# Altium footprint library SWitchs_Manufacturers.PcbLib: 5 footprints
Each footprint in its own frame and in the unit in brackets; x right, y up, seen from the top. Pads: shape width x height; smd on the part's side, far side on the other; paste and mask are expansions set on the pad; w line width, h text height; cw(c..) or ccw(c..) is an arc to the next point about the centre after c.
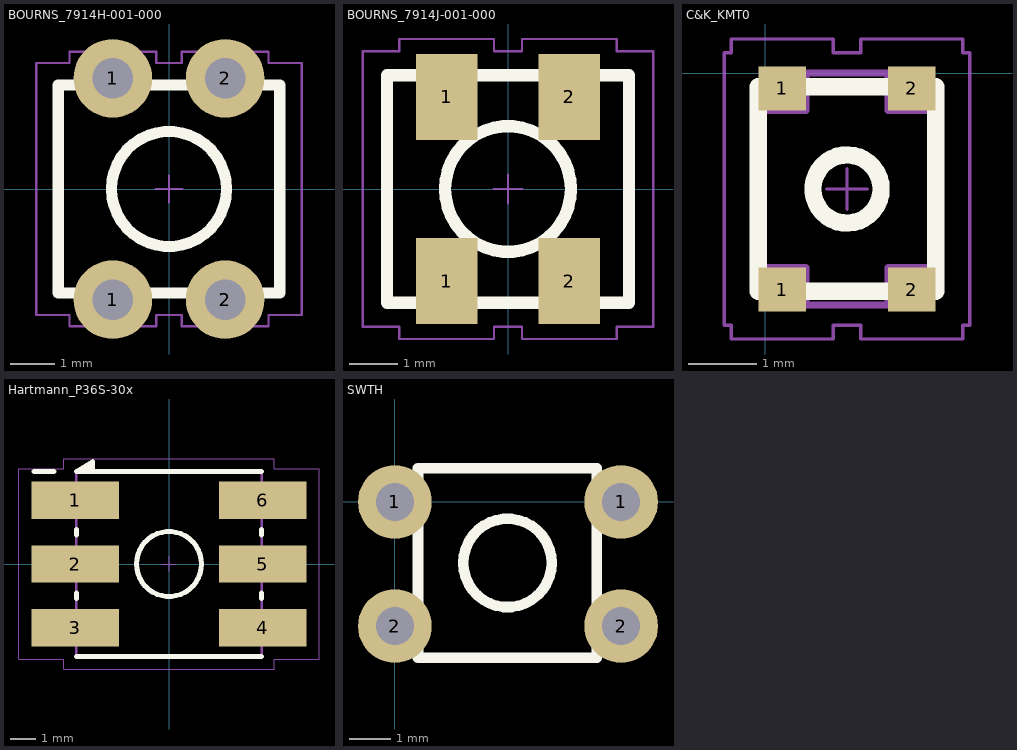
[diagram p0: the footprints below, top view; thin cyan lines are the x and y axes]

## BOURNS_7914H-001-000 [mil] "7914 4 mm TH Sealed Key Switch"
height 165.35
pads (4):
  round 70 hole 36: 1(-50,-98.43) 1(-50,98.43) 2(50,-98.43) 2(50,98.43)
Top Overlay:
  circle w10: c0,0 r51.18
  lines w10: -98.43,-92.52 98.43,-92.52 98.43,92.52 -98.43,92.52 -98.43,-92.52
TopBody:
  circle w3.94: c0,0 r51.18
  lines w3.94: -68.9,-92.52 -68.9,-102.36 -31.1,-102.36 -31.1,-92.52 ; -68.9,92.52 -68.9,102.36 -31.1,102.36 -31.1,92.52 ; 31.1,-92.52 31.1,-102.36 68.9,-102.36 68.9,-92.52 ; 31.1,92.52 31.1,102.36 68.9,102.36 68.9,92.52 ; -98.43,-92.52 -98.43,92.52 98.43,92.52 98.43,-92.52 -98.43,-92.52
  text ".Designator" at -32.48,-6.89 h19.68
TopCourtyard:
  lines w1.97: -11.81,0 11.81,0 ; 0,-11.81 0,11.81 ; -118.11,-112.2 -88.58,-112.2 -88.58,-122.05 -11.42,-122.05 -11.42,-112.2 11.42,-112.2 11.42,-122.05 88.58,-122.05 88.58,-112.2 118.11,-112.2 118.11,112.2 88.58,112.2 88.58,122.05 11.42,122.05 11.42,112.2 -11.42,112.2 -11.42,122.05 -88.58,122.05 -88.58,112.2 -118.11,112.2 -118.11,-112.2
3D body: height 165.35, standoff 39.37, extent -51.18,-51.18 51.18,51.18
3D body: height 107.87, standoff 0, extent -98.43,-102.36 98.43,102.36

## BOURNS_7914J-001-000 [mm] "7914 4 mm SMD Sealed Key Switch"
height 4.2
pads (4):
  rect 1.27x1.78 smd: 1(-1.27,-1.905) 1(-1.27,1.905) 2(1.27,-1.905) 2(1.27,1.905)
Top Overlay:
  circle w0.254: c0,0 r1.3
  lines w0.254: -2.5,-2.35 2.5,-2.35 2.5,2.35 -2.5,2.35 -2.5,-2.35
TopBody:
  circle w0.1: c0,0 r1.3
  lines w0.1: -1.75,-2.35 -1.75,-2.6 -0.79,-2.6 -0.79,-2.35 ; -1.75,2.35 -1.75,2.6 -0.79,2.6 -0.79,2.35 ; 0.79,-2.35 0.79,-2.6 1.75,-2.6 1.75,-2.35 ; 0.79,2.35 0.79,2.6 1.75,2.6 1.75,2.35 ; -2.5,-2.35 -2.5,2.35 2.5,2.35 2.5,-2.35 -2.5,-2.35
  text ".Designator" at -0.825,-0.175 h0.5
TopCourtyard:
  lines w0.05: -0.3,0 0.3,0 ; 0,-0.3 0,0.3 ; -3,-2.85 -2.25,-2.85 -2.25,-3.1 -0.29,-3.1 -0.29,-2.85 0.29,-2.85 0.29,-3.1 2.25,-3.1 2.25,-2.85 3,-2.85 3,2.85 2.25,2.85 2.25,3.1 0.29,3.1 0.29,2.85 -0.29,2.85 -0.29,3.1 -2.25,3.1 -2.25,2.85 -3,2.85 -3,-2.85
3D body: height 4.2, standoff 1, extent -1.3,-1.3 1.3,1.3
3D body: height 2.74, standoff 0, extent -2.5,-2.6 2.5,2.6

## C&K_KMT0 [mm] "KMT0 Series  Nano-Miniature SMT Top Actuated"
height 1.65
pads (4):
  rect 0.7x0.65 smd: 1(0.25,-3.175) 1(0.25,-0.225) 2(2.15,-3.175) 2(2.15,-0.225)
Top Overlay:
  circle w0.254: c1.2,-1.7 r0.5
  lines w0.254: -0.1,-3.2 2.5,-3.2 2.5,-0.2 -0.1,-0.2 -0.1,-3.2
TopBody:
  circle w0.1: c1.2,-1.7 r0.5
  lines w0.1: 0,-2.85 0,-3.4 0.46,-3.4 0.46,-2.85 ; 0,-0.55 0,0 0.46,0 0.46,-0.55 ; 1.94,-2.85 1.94,-3.4 2.4,-3.4 2.4,-2.85 ; 1.94,-0.55 1.94,0 2.4,0 2.4,-0.55 ; -0.1,-2.85 -0.1,-0.55 0.6,-0.55 0.6,0 1.8,0 1.8,-0.55 2.5,-0.55 2.5,-2.85 1.8,-2.85 1.8,-3.4 0.6,-3.4 0.6,-2.85 -0.1,-2.85
TopCourtyard:
  lines w0.05: 0.9,-1.7 1.5,-1.7 ; 1.2,-2 1.2,-1.4 ; 2.9,-3.7 3,-3.7 ; 2.9,-3.7 2.9,-3.9 1.4,-3.9 1.4,-3.7 1,-3.7 1,-3.9 -0.5,-3.9 -0.5,-3.7 -0.6,-3.7 -0.6,0.3 -0.5,0.3 -0.5,0.5 1,0.5 1,0.3 1.4,0.3 1.4,0.5 2.9,0.5 2.9,0.3 ; 2.9,-3.7 3,-3.7 ; 2.9,0.3 3,0.3 ; 2.9,0.3 3,0.3 ; 3,-3.7 3,0.3
3D body: height 0.55, standoff 0, extent -0.1,-3.4 2.5,0

## Hartmann_P36S-30x [mm] "P36 with axe SMD Sealed Rotating Switch"
height 3.85
pads (6):
  rect 3.5x1.5 smd: 1(-3.75,2.54) 2(-3.75,0) 3(-3.75,-2.54) 4(3.75,-2.54) 5(3.75,0) 6(3.75,2.54)
Top Overlay:
  circle w0.2: c0,0 r1.3
  lines w0.2: -5.4,3.7 -4.6,3.7 ; -3.7,-3.7 3.7,-3.7 ; -3.7,-1.375 -3.7,-1.15 ; -3.7,1.15 -3.7,1.375 ; -3.45,3.7 -3.125,3.925 ; -3.05,3.7 -3.05,4.1 -3.7,3.7 3.7,3.7 ; 3.7,-1.375 3.7,-1.15 ; 3.7,1.15 3.7,1.375
TopBody:
  circle w0.1: c0,0 r1.3
  lines w0.1: -3.7,-3.04 -5.25,-3.04 -5.25,-2.04 -3.7,-2.04 ; -3.7,-0.5 -5.25,-0.5 -5.25,0.5 -3.7,0.5 ; -3.7,2.04 -5.25,2.04 -5.25,3.04 -3.7,3.04 ; -3.7,2.24 -3.4,2.54 -3.7,2.84 ; -3.7,2.34 -3.5,2.54 -3.7,2.74 ; -3.7,2.44 -3.6,2.54 -3.7,2.64 ; 3.7,-3.04 5.25,-3.04 5.25,-2.04 3.7,-2.04 ; 3.7,-0.5 5.25,-0.5 5.25,0.5 3.7,0.5 ; 3.7,2.04 5.25,2.04 5.25,3.04 3.7,3.04 ; -3.7,-3.7 3.7,-3.7 3.7,3.7 -3.7,3.7 -3.7,-3.7
  text ".Designator" at -0.825,-0.175 h0.5
TopCourtyard:
  lines w0.05: -0.3,0 0.3,0 ; 0,-0.3 0,0.3 ; -6,-3.8 -6,3.8 -4.2,3.8 -4.2,4.2 4.2,4.2 4.2,3.8 6,3.8 6,-3.8 4.2,-3.8 4.2,-4.2 -4.2,-4.2 -4.2,-3.8 -6,-3.8
3D body: height 10, standoff 0, extent -1.3,-1.3 1.3,1.3
3D body: height 3.85, standoff 0, extent -3.7,-3.7 3.7,3.7
3D body: height 1, standoff 0, extent -5.25,2.04 -2.25,3.04
3D body: height 1, standoff 0, extent -5.25,-0.5 -2.25,0.5
3D body: height 1, standoff 0, extent -5.25,-3.04 -2.25,-2.04
3D body: height 1, standoff 0, extent 3.7,-3.04 5.25,-2.04
3D body: height 1, standoff 0, extent 3.7,-0.5 5.25,0.5
3D body: height 1, standoff 0, extent 3.7,2.04 5.25,3.04

## SWTH [mil]
pads (4):
  round 70 hole 36: 1(0,0) 1(215,0) 2(0,-118) 2(215,-118)
Top Overlay:
  circle w10: c107,-58 r42
  lines w10: 22,-148 192,-148 192,32 22,32 22,-148